# EAGLE library part LTC3300ILXE-1PBF (library balancer)
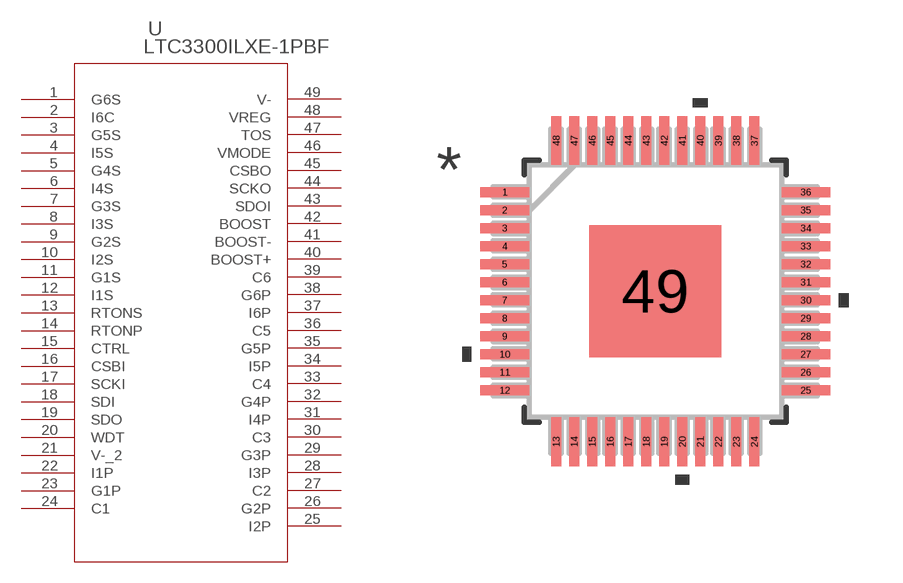
[diagram p1: symbol with the pads of 05-08-1832_ADI; footprint 05-08-1832_ADI]

Designator prefix U

## LTC3300ILXE-1PBF (COPYRIGHT: Copyright (C) 2026 Ultra Librarian. All rights reserved.; DATASHEET: https://www.analog.com/media/en/technical-documentation/data-sheets/LTC3300-1.pdf; DESCRIPTION: High Efficiency Bidirectional Multicell Battery Balancer; MANUFACTURER_NAME: Analog Devices Inc; MANUFACTURER_PART_NUMBER: LTC3300ILXE-1#PBF; TYPE: Power Management)  [05-08-1832_ADI]
1  G6S  out
2  I6C  in
3  G5S  out
4  I5S  in
5  G4S  out
6  I4S  in
7  G3S  out
8  I3S  in
9  G2S  out
10  I2S  in
11  G1S  out
12  I1S  in
13  RTONS  pas
14  RTONP  pas
15  CTRL  in
16  CSBI  in
17  SCKI  in
18  SDI  in
19  SDO  out
20  WDT  out
21  V-_2  pwr
22  I1P  in
23  G1P  out
24  C1  pwr
25  I2P  in
26  G2P  out
27  C2  pwr
28  I3P  in
29  G3P  out
30  C3  pwr
31  I4P  in
32  G4P  out
33  C4  pwr
34  I5P  in
35  G5P  out
36  C5  pwr
37  I6P  in
38  G6P  out
39  C6  pwr
40  BOOST+  pwr
41  BOOST-  pwr
42  BOOST  in
43  SDOI
44  SCKO  out
45  CSBO  out
46  VMODE  in
47  TOS  in
48  VREG  pwr
49  V-  pwr

## Footprint 05-08-1832_ADI (pad centres in mm)
smd 1.346 x 0.279: 1 -4.178,2.75; 2 -4.178,2.25; 3 -4.178,1.75; 4 -4.178,1.25; 5 -4.178,0.75; 6 -4.178,0.25; 7 -4.178,-0.25; 8 -4.178,-0.75; 9 -4.178,-1.25; 10 -4.178,-1.75; 11 -4.178,-2.25; 12 -4.178,-2.75; 25 4.178,-2.75; 26 4.178,-2.25; 27 4.178,-1.75; 28 4.178,-1.25; 29 4.178,-0.75; 30 4.178,-0.25; 31 4.178,0.25; 32 4.178,0.75; 33 4.178,1.25; 34 4.178,1.75; 35 4.178,2.25; 36 4.178,2.75
smd 0.279 x 1.346: 13 -2.75,-4.178; 14 -2.25,-4.178; 15 -1.75,-4.178; 16 -1.25,-4.178; 17 -0.75,-4.178; 18 -0.25,-4.178; 19 0.25,-4.178; 20 0.75,-4.178; 21 1.25,-4.178; 22 1.75,-4.178; 23 2.25,-4.178; 24 2.75,-4.178; 37 2.75,4.178; 38 2.25,4.178; 39 1.75,4.178; 40 1.25,4.178; 41 0.75,4.178; 42 0.25,4.178; 43 -0.25,4.178; 44 -0.75,4.178; 45 -1.25,4.178; 46 -1.75,4.178; 47 -2.25,4.178; 48 -2.75,4.178
smd 3.658 x 3.658: 49 0,0